# Altium footprint library Eight_bit_v1.PcbLib: 19 footprints (part 1 of 2)
Each footprint in its own frame and in the unit in brackets; x right, y up, seen from the top. Pads: shape width x height; smd on the part's side, far side on the other; paste and mask are expansions set on the pad; w line width, h text height; cw(c..) or ccw(c..) is an arc to the next point about the centre after c.
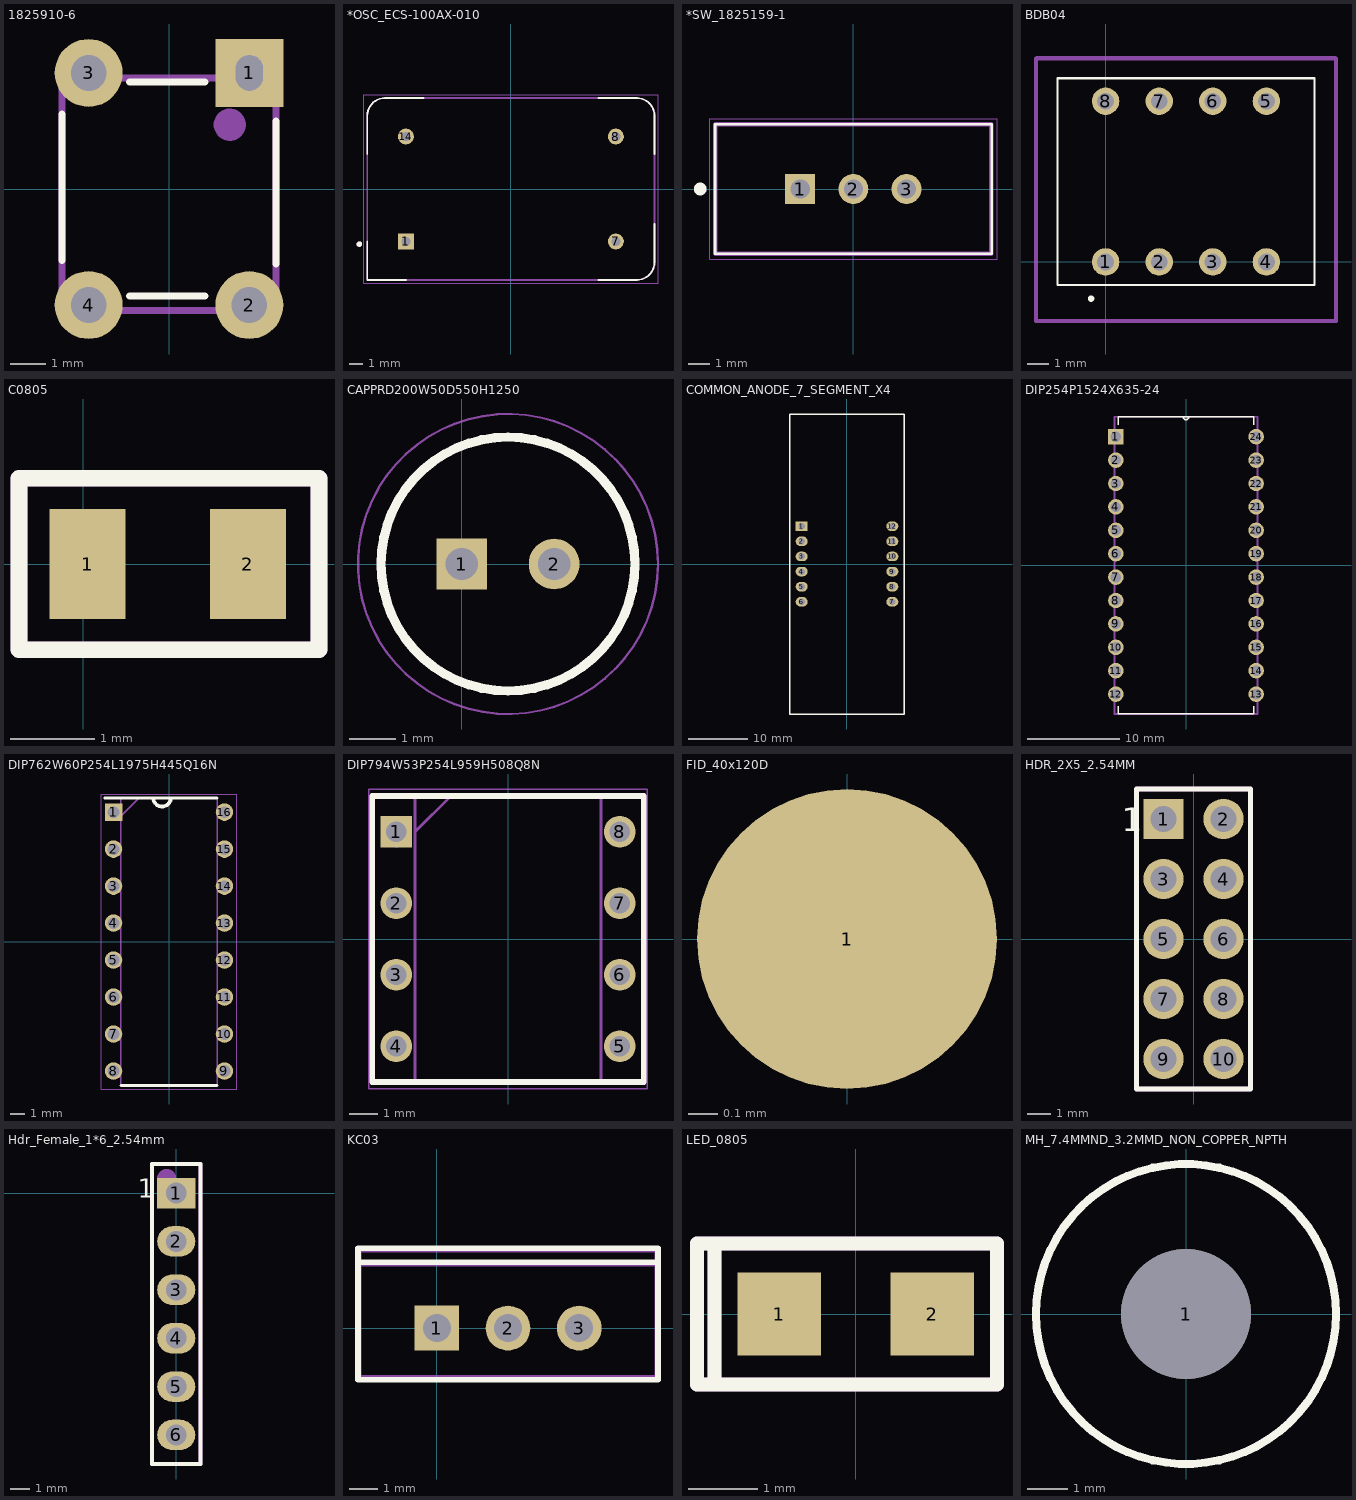
[diagram p0: the footprints below, top view; thin cyan lines are the x and y axes]

## 1825910-6 [mm]
pads (4):
  rect 1.9x1.9 hole 1 slot 0.762 at 0 deg: 1(2.25,3.25)
  round 1.9 hole 1: 2(2.25,-3.25) 3(-2.25,3.25) 4(-2.25,-3.25)
Top Overlay:
  lines w0.2: -2.995,-1.999 -2.995,-0.974 -2.995,1.076 -2.995,2.101 ; -1.1,-3 1,-3 ; -1.1,3 1,3 ; 3,-2.1 3,1.9
Mechanical 29:
  circle w0.5: c1.7,1.8 r0.2
  lines w0.2: -3,-3.4 -3,3.2 -2.905,3.105 2.995,3.105 2.995,-3.4 -3,-3.4
  text ".Designator" at -1.7,-0.3 h1.6
3D body "User Library-FSM4JLH(1825910-5).step": height 5, standoff -3.51, extent -2.995,-3.898 2.995,3.9

## *OSC_ECS-100AX-010 [mm]
pads (4):
  rect 1.158x1.158 hole 0.65: 1(-7.62,-3.81)
  round 1.158 hole 0.65: 7(7.62,-3.81) 8(7.62,3.81) 14(-7.62,3.81)
Top Overlay:
  circle w0.2: c-11,-4 r0.1
  lines w0.127: -10.43,-3.81 -10.43,-6.6 -7.62,-6.6 ; -10.43,2.54 -10.43,5.3 ; -10.43,5.31 cw(c-9.14,5.31) -9.14,6.6 ; -9.15,6.6 -6.35,6.6 ; 6.35,-6.6 9.15,-6.6 ; 6.35,6.6 9.15,6.6 ; 9.14,-6.6 ccw(c9.14,-5.31) 10.43,-5.31 ; 9.14,6.6 cw(c9.14,5.31) 10.43,5.31 ; 10.43,-5.3 10.43,-2.54 ; 10.43,2.54 10.43,5.3
Mechanical 4:
  circle w0.2: c-11,-4 r0.1
  circle w0.2: c-11,-4 r0.1
  lines w0.127: -10.43,-6.6 9.16,-6.6 -10.43,-6.6 ; -10.43,-6.6 -10.43,5.3 -10.43,-6.6 ; -10.43,5.293 cw(c-9.145,5.315) -9.167,6.6 ccw(c-9.145,5.315) -10.43,5.293 ; -9.16,6.6 9.16,6.6 -9.16,6.6 ; 9.167,-6.6 ccw(c9.145,-5.315) 10.43,-5.293 cw(c9.145,-5.315) 9.167,-6.6 ; 9.167,6.6 cw(c9.145,5.315) 10.43,5.293 ccw(c9.145,5.315) 9.167,6.6 ; 10.43,-5.3 10.43,5.3 10.43,-5.3
Mechanical 16:
  lines w0.05: -10.68,-6.85 10.68,-6.85 10.68,6.85 -10.68,6.85 -10.68,-6.85
3D body: height 4.65, standoff 4.65, extent -7.112,-2.984 7.112,2.985
3D body: height 0.25, standoff 0, extent 13.335,-0.508 13.335,-0.508
3D body "User Library-OSC_DIP-14.step": height 4.61, standoff -1.99, extent -10.1,-6.35 10.1,6.35

## *SW_1825159-1 [mm]
pads (3):
  rect 1.408x1.408 hole 0.9: 1(-2.5,0)
  round 1.408 hole 0.9: 2(0,0) 3(2.5,0)
Top Overlay:
  circle w0.3: c-7.2,0 r0.15
  lines w0.127: -6.5,-3.05 6.5,-3.05 6.5,3.05 -6.5,3.05 -6.5,-3.05
Mechanical 16:
  lines w0.05: -6.75,-3.3 -6.75,3.3 6.75,3.3 6.75,-3.3 -6.75,-3.3
Mechanical 29:
  lines w0.2: -6.477,-3.048 -6.477,3.048 6.477,3.048 6.477,-3.048 -6.477,-3.048
  text ".Designator" at 0,-0.254 h1.27
3D body "70274592.stp": height 6.41, standoff -4.99, extent -5.001,-1.22 5,1.22

## BDB04 [mm]
pads (8):
  round 1.3 hole 0.8: 1(0,0) 2(2.54,0) 3(5.08,0) 4(7.62,0) 5(7.62,7.62) 6(5.08,7.62) 7(2.54,7.62) 8(0,7.62)
Top Overlay:
  lines w0.1: -2.285,-1.09 9.905,-1.09 9.905,8.71 -2.285,8.71 -2.285,-1.09
  lines w0.2: -0.69,-1.79 cw(c-0.69,-1.74) -0.69,-1.69 cw(c-0.69,-1.74) -0.69,-1.79
Mechanical 15:
  lines w0.1: -3.285,-2.79 10.905,-2.79 10.905,9.71 -3.285,9.71 -3.285,-2.79
Mechanical 29:
  lines w0.2: -3.302,-2.794 -3.302,9.652 10.922,9.652 10.922,-2.794 -3.302,-2.794
  text ".Designator" at 3.81,4.064 h1.27
3D body "User Library-DIP SWITCH 4 POS CTS 206.step": height 8.15, standoff -3.49, extent -2.36,-1.08 9.98,8.7

## C0805 [mm]
pads (2):
  rect 0.9x1.3 smd: 1(0.05,0) 2(1.95,0)
Top Overlay:
  lines w0.2: -0.762,-1.016 -0.762,1.016 2.794,1.016 2.794,-1.016 -0.762,-1.016
Mechanical 29:
  lines w0.2: -0.762,-1.016 -0.762,1.016 2.794,1.016 2.794,-1.016 -0.762,-1.016
  text ".Designator" at 0.05,-0.254 h0.6
3D body "CAPC2013X95N.step": height 0.96, standoff 0.01, extent 0,-0.6 2,0.6

## CAPPRD200W50D550H1250 [mm]
pads (2):
  rect 1.1x1.1 hole 0.7: 1(0,0)
  round 1.1 hole 0.7: 2(2,0)
Top Overlay:
  circle w0.2: c1,0 r2.75
Mechanical 15:
  circle w0.05: c1,0 r3.25
Mechanical 29:
  circle w0.1: c1,0 r2.75
  text ".Designator" at 0.635,-0.889 h0.76
3D body "User Library-5x11_5.STEP": height 11.55, standoff -19, extent -1.534,-2.54 3.566,2.56

## COMMON_ANODE_7_SEGMENT_X4 [mm]
pads (12):
  rect 2x1.6 hole 1.1: 1(-7.62,6.35)
  oval 2x1.6 hole 1.1: 2(-7.62,3.81) 3(-7.62,1.27) 4(-7.62,-1.27) 5(-7.62,-3.81) 6(-7.62,-6.35) 7(7.62,-6.35) 8(7.62,-3.81) 9(7.62,-1.27) 10(7.62,1.27) 11(7.62,3.81) 12(7.62,6.35)
Top Overlay:
  lines w0.25: -9.6,-25.2 -9.6,25.2 9.6,25.2 9.6,-25.2 -9.6,-25.2
Mechanical 29:
  lines w0.2: -9.6,-25.2 9.6,-25.2 9.6,25.2 -9.6,25.2 -9.6,-25.2
  text ".Designator" at 0.4,-1.2 h7
3D body "User Library-C-564 (7 segment 4 digit LED display).step": height 8.01, standoff -6.19, extent -9.5,-25.3 9.5,25.1

## DIP254P1524X635-24 [mil]
pads (24):
  rect 66x66 hole 44: 1(-300,550)
  round 66 hole 44: 2(-300,450) 3(-300,350) 4(-300,250) 5(-300,150) 6(-300,50) 7(-300,-50) 8(-300,-150) 9(-300,-250) 10(-300,-350) 11(-300,-450) 12(-300,-550) 13(300,-550) 14(300,-450) 15(300,-350) 16(300,-250) 17(300,-150) 18(300,-50) 19(300,50) 20(300,150) 21(300,250) 22(300,350) 23(300,450) 24(300,550)
Top Overlay:
  lines w6: -290,-601 -290,-635 290,-635 290,-601 ; -290,602 -290,635 -12,635 ; 290,601 290,635 12,635 ; -12,635 ccw(c0,635) 12,635 ; -12,635 12,635
Mechanical 29:
  lines w7.87: -305,-635 -305,635 -290,635 290,635 305,635 305,-635 -305,-635
  text ".Designator" at 10,-10 h70
3D body "User Library-DIP24 Wide.STEP": height 185.54, standoff -164.85, extent -303.95,-635.04 303.92,635.04

## DIP762W60P254L1975H445Q16N [mm]
pads (16):
  rect 1.2x1.2 hole 0.8: 1(-3.81,8.89)
  round 1.2 hole 0.8: 2(-3.81,6.35) 3(-3.81,3.81) 4(-3.81,1.27) 5(-3.81,-1.27) 6(-3.81,-3.81) 7(-3.81,-6.35) 8(-3.81,-8.89) 9(3.81,-8.89) 10(3.81,-6.35) 11(3.81,-3.81) 12(3.81,-1.27) 13(3.81,1.27) 14(3.81,3.81) 15(3.81,6.35) 16(3.81,8.89)
Top Overlay:
  lines w0.2: -4.41,9.875 3.3,9.875 ; -3.3,-9.875 3.3,-9.875
  lines w0.254: -1.07,9.763 ccw(c-0.477,9.875) 0.12,9.783
Mechanical 15:
  lines w0.05: -4.66,-10.125 -4.66,10.125 4.66,10.125 4.66,-10.125 -4.66,-10.125
Mechanical 29:
  lines w0.1: -3.3,8.605 -2.03,9.875 ; -3.3,-9.875 3.3,-9.875 3.3,9.875 -3.3,9.875 -3.3,4.938 -3.3,-4.938 -3.3,-9.875
  text ".Designator" at -0.381,-0.635 h1.27
3D body "TC74HC123AP(F).stp": height 4.45, standoff -3.5, extent -3.96,-9.875 3.96,9.875

## DIP794W53P254L959H508Q8N [mm]
pads (8):
  rect 1.13x1.13 hole 0.73: 1(-3.97,3.81)
  round 1.13 hole 0.73: 2(-3.97,1.27) 3(-3.97,-1.27) 4(-3.97,-3.81) 5(3.97,-3.81) 6(3.97,-1.27) 7(3.97,1.27) 8(3.97,3.81)
Top Overlay:
  lines w0.2: -3.3,-5.08 3.3,-5.08 ; -4.826,-5.08 4.826,-5.08 4.826,5.08 3.39,5.08 -4.445,5.08 -4.826,5.08 -4.826,-5.08
Mechanical 13:
  lines w0.1: -3.3,3.81 -2.03,5.08 ; -3.3,-5.08 -3.3,5.08 3.3,5.08 3.3,-5.08 -3.3,-5.08
Mechanical 15:
  lines w0.05: -4.945,-5.33 -4.945,5.33 4.945,5.33 4.945,-5.33 -4.945,-5.33
Mechanical 29:
  circle w0.5: c-3.97,3.81 r0.3
  lines w0.2: -4.826,-5.08 4.826,-5.08 4.826,5.08 -4.826,5.08 -4.826,-5.08
  text ".Designator" at -1.905,-0.508 h1.27
3D body "NE555PG4.stp": height 5.08, standoff -3.5, extent -4.102,-4.795 4.102,4.795

## FID_40x120D [mil]
pads (1):
  round 40 smd paste-40 mask+40: 1(0,0)

## HDR_2X5_2.54MM [mm]
pads (10):
  rect 1.7x1.7 hole 1.1: 1(-1.27,5.08)
  round 1.7 hole 1.1: 2(1.27,5.08) 3(-1.27,2.54) 4(1.27,2.54) 5(-1.27,0) 6(1.27,0) 7(-1.27,-2.54) 8(1.27,-2.54) 9(-1.27,-5.08) 10(1.27,-5.08)
Top Overlay:
  lines w0.2: -0.635,6.35 2.413,6.35 2.413,-6.35 -2.413,-6.35 -2.413,6.35 0.635,6.35
  text "1" at -3.048,4.572 h1
Mechanical 29:
  circle w0.5: c-1.27,5.207 r0.18
  lines w0.2: -2.413,-6.35 2.413,-6.35 2.413,6.35 -2.413,6.35 -2.413,-6.35
  text ".Designator" at -0.254,-0.254 h1.52
3D body "User Library-BH_10_V.step": height 9.11, standoff -2.89, extent -4.55,-10.16 4.55,10.16

## Hdr_Female_1*6_2.54mm [mm]
pads (6):
  rect 2x1.6 hole 1.1: 1(0,0)
  oval 2x1.6 hole 1.1: 2(0,-2.54) 3(0,-5.08) 4(0,-7.62) 5(0,-10.16) 6(0,-12.7)
Top Overlay:
  lines w0.2: -1.27,-14.224 1.27,-14.224 1.27,1.524 -1.27,1.524 -1.27,-14.224
  text "1" at -2.032,-0.254 h1
Mechanical 29:
  circle w0.5: c-0.508,0.762 r0.254
  lines w0.2: -1.27,-14.224 -1.27,1.524 1.27,1.524 1.27,-14.224 -1.27,-14.224
  text ".Designator" at 0.254,-9.652 h0.8
3D body "m20-7820646_asm.stp": height 8.51, standoff -2.99, extent -1.25,-14.17 1.25,1.47

## KC03 [mm] "TO, Thru-Hole, Vertical, Heatsink Mounted; 3 In-Line Leads; Pitch 2.54 mm"
height 22.2
pads (3):
  rect 1.6x1.6 hole 1: 1(0,0)
  round 1.6 hole 1: 2(2.54,0) 3(5.08,0)
Top Overlay:
  lines w0.2: -2.81,2.35 7.89,2.35 ; -2.81,-1.85 7.89,-1.85 7.89,2.85 -2.81,2.85 -2.81,-1.85
Mechanical 29:
  lines w0.2: -2.794,2.286 7.874,2.286 ; -2.794,-1.778 7.874,-1.778 7.874,2.794 -2.794,2.794 -2.794,-1.778
  text ".Designator" at 2.54,-0.5 h1.02
3D body "User Library-LM317.step": height 18.5, standoff -9.5, extent -2.51,-2.8 7.59,1.8

## LED_0805 [mm]
pads (2):
  rect 1.2x1.2 smd: 1(-1.1,0) 2(1.1,0)
Top Overlay:
  lines w0.2: -2.032,-1.016 2.032,-1.016 2.032,1.016 -2.032,1.016 ; -2.032,-1.016 -2.032,1.016 ; -2.032,-1.016 -2.286,-1.016 -2.286,1.016 -2.032,1.016
Mechanical 29:
  lines w0.2: -2.032,-1.016 -2.032,1.016 ; -2.286,-1.016 2.032,-1.016 2.032,1.016 -2.286,1.016 -2.286,-1.016
  text ".Designator" at -1.27,-0.254 h0.6
3D body "everlight-17-21-0805LED-GREEN.step": height 1.12, standoff 0.01, extent -1,-0.625 1,0.625

## MH_7.4MMND_3.2MMD_NON_COPPER_NPTH [mm]
pads (1):
  round 3.2 hole 3.2: 1(0,0)
Top Overlay:
  circle w0.2: c0,0 r3.7